# EAGLE library part ATH06 (library @Club_convertisseurs_CC_CC)
ATH06K12-9J Vin : 10.8V to 13.2V Vout : 1.2V to 5.5V Imax : 6A
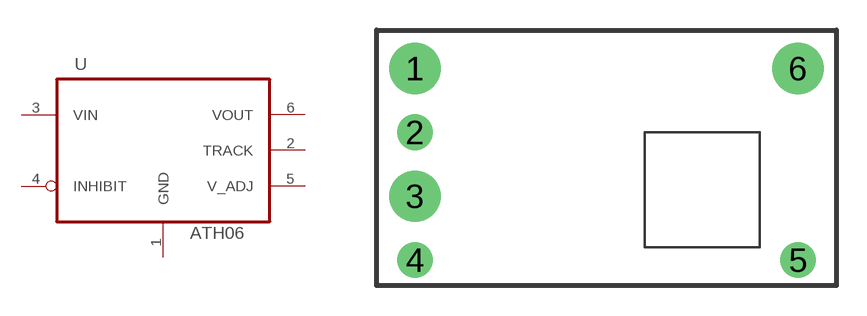
[diagram p0: symbol with the pads of ATH06; footprint ATH06]

Designator prefix U

## ATH06  [ATH06]
1  GND  pwr
2  TRACK  in
3  VIN  pwr
4  INHIBIT  in
5  V_ADJ  in
6  VOUT  out

## Footprint ATH06 (pad centres in mm)
Linear Devices Operational amplifiers, comparators, voltage regulators, ADCs, DACs, etc. Created by librarian@cadsoft.de
drill 0.6 pad 2.54: 1 -9.525,4.445; 3 -9.525,-1.905; 6 9.525,4.445
drill 0.6 pad 1.778: 2 -9.525,1.27; 4 -9.525,-5.08; 5 9.525,-5.08